# Altium schematic symbol library Antenne.SchLib: 2 symbols
Pins are listed as number, name and electrical type; pins without a type are passive.

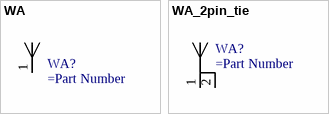
[diagram p0: symbols WA to WA_2pin_tie]

## WA
designator WA?
pins: 1

## WA_2pin_tie
designator WA?  (net tie, no BOM)
pins: 1, 2